# EAGLE library part AL5802-7 (library Smile_Shade)
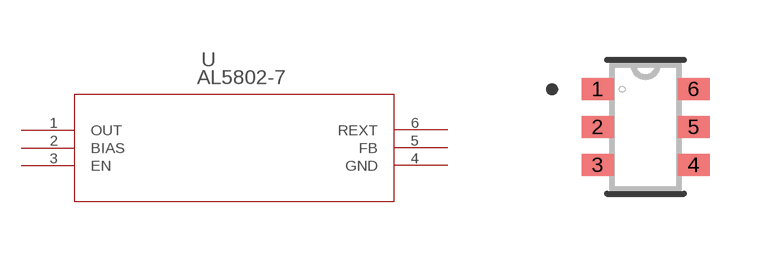
[diagram p2: symbol with the pads of SOT26; footprint SOT26]

Designator prefix U

## AL5802-7 (MANUFACTURER_PART_NUMBER: al58027; VENDOR: Diodes Inc)  [SOT26]
1  OUT  out
2  BIAS  out
3  EN  pas
4  GND  pwr
5  FB  pas
6  REXT  pas

## Footprint SOT26 (pad centres in mm)
smd 0.8 x 0.55: 1 -1.2,0.95; 2 -1.2,0; 3 -1.2,-0.95; 4 1.2,-0.95; 5 1.2,0; 6 1.2,0.95